# Altium schematic symbol library TLV70033DDCR.SchLib: 1 symbol
Pins are listed as number, name and electrical type; pins without a type are passive.

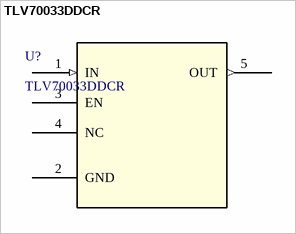
[diagram p0: symbol TLV70033DDCR]

## TLV70033DDCR
designator U?
200-mA, high-PSRR, low-IQ, low-dropout voltage regulator with enable 5-SOT-23-THIN -40 to 125; Manufacturer_Name: Texas Instruments; Copyright: Copyright (C) 2026 Ultra Librarian. All rights reserved.; Manufacturer_Part_Number: TLV70033DDCR; Datasheet: https://www.ti.com/lit/gpn/tlv700; RefDes: RefDes; Type: Type
footprint DDC5 (Footprint not found)
pins: 1 IN (in), 2 GND (power), 3 EN, 4 NC, 5 OUT (out)